# Altium schematic symbol library SCH - MCU - STM32 - ST MICROELECTRONICS STM32U031K8UX UFQFPN32.SchLib: 1 symbol
Pins are listed as number, name and electrical type; pins without a type are passive.

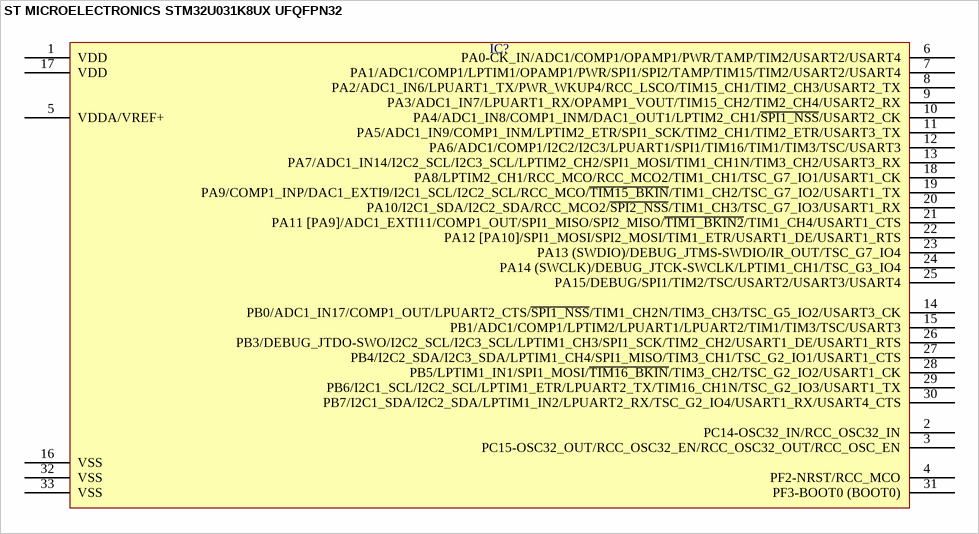
[diagram p0: symbol ST MICROELECTRONICS STM32U031K8UX UFQFPN32]

## ST MICROELECTRONICS STM32U031K8UX UFQFPN32
designator IC?  (value not drawn)
pins: 1 VDD, 2 PC14-OSC32_IN/RCC_OSC32_IN, 3 PC15-OSC32_OUT/RCC_OSC32_EN/RCC_OSC32_OUT/RCC_OSC_EN, 4 PF2-NRST/RCC_MCO, 5 VDDA/VREF+, 6 PA0-CK_IN/ADC1/COMP1/OPAMP1/PWR/TAMP/TIM2/USART2/USART4, 7 PA1/ADC1/COMP1/LPTIM1/OPAMP1/PWR/SPI1/SPI2/TAMP/TIM15/TIM2/USART2/USART4, 8 PA2/ADC1_IN6/LPUART1_TX/PWR_WKUP4/RCC_LSCO/TIM15_CH1/TIM2_CH3/USART2_TX, 9 PA3/ADC1_IN7/LPUART1_RX/OPAMP1_VOUT/TIM15_CH2/TIM2_CH4/USART2_RX, 10 PA4/ADC1_IN8/COMP1_INM/DAC1_OUT1/LPTIM2_CH1/~{SPI1_NSS}/USART2_CK, 11 PA5/ADC1_IN9/COMP1_INM/LPTIM2_ETR/SPI1_SCK/TIM2_CH1/TIM2_ETR/USART3_TX, 12 PA6/ADC1/COMP1/I2C2/I2C3/LPUART1/SPI1/TIM16/TIM1/TIM3/TSC/USART3, 13 PA7/ADC1_IN14/I2C2_SCL/I2C3_SCL/LPTIM2_CH2/SPI1_MOSI/TIM1_CH1N/TIM3_CH2/USART3_RX, 14 PB0/ADC1_IN17/COMP1_OUT/LPUART2_CTS/~{SPI1_NSS}/TIM1_CH2N/TIM3_CH3/TSC_G5_IO2/USART3_CK, 15 PB1/ADC1/COMP1/LPTIM2/LPUART1/LPUART2/TIM1/TIM3/TSC/USART3, 16 VSS, 17 VDD, 18 PA8/LPTIM2_CH1/RCC_MCO/RCC_MCO2/TIM1_CH1/TSC_G7_IO1/USART1_CK, 19 PA9/COMP1_INP/DAC1_EXTI9/I2C1_SCL/I2C2_SCL/RCC_MCO/~{TIM15_BKIN}/TIM1_CH2/TSC_G7_IO2/USART1_TX, 20 PA10/I2C1_SDA/I2C2_SDA/RCC_MCO2/~{SPI2_NSS}/TIM1_CH3/TSC_G7_IO3/USART1_RX, 21 PA11 [PA9]/ADC1_EXTI11/COMP1_OUT/SPI1_MISO/SPI2_MISO/~{TIM1_BKIN2}/TIM1_CH4/USART1_CTS, 22 PA12 [PA10]/SPI1_MOSI/SPI2_MOSI/TIM1_ETR/USART1_DE/USART1_RTS, 23 PA13 (SWDIO)/DEBUG_JTMS-SWDIO/IR_OUT/TSC_G7_IO4, 24 PA14 (SWCLK)/DEBUG_JTCK-SWCLK/LPTIM1_CH1/TSC_G3_IO4, 25 PA15/DEBUG/SPI1/TIM2/TSC/USART2/USART3/USART4, 26 PB3/DEBUG_JTDO-SWO/I2C2_SCL/I2C3_SCL/LPTIM1_CH3/SPI1_SCK/TIM2_CH2/USART1_DE/USART1_RTS, 27 PB4/I2C2_SDA/I2C3_SDA/LPTIM1_CH4/SPI1_MISO/TIM3_CH1/TSC_G2_IO1/USART1_CTS, 28 PB5/LPTIM1_IN1/SPI1_MOSI/~{TIM16_BKIN}/TIM3_CH2/TSC_G2_IO2/USART1_CK, 29 PB6/I2C1_SCL/I2C2_SCL/LPTIM1_ETR/LPUART2_TX/TIM16_CH1N/TSC_G2_IO3/USART1_TX, 30 PB7/I2C1_SDA/I2C2_SDA/LPTIM1_IN2/LPUART2_RX/TSC_G2_IO4/USART1_RX/USART4_CTS, 31 PF3-BOOT0 (BOOT0), 32 VSS, 33 VSS